# EAGLE library part MOLEX_47346-1001 (library lib)
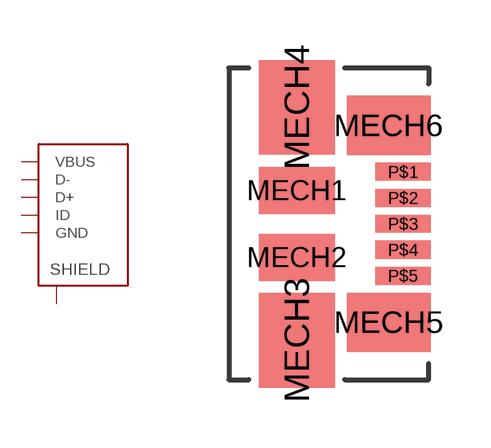
[diagram p3: symbol with the pads of MOLEX_47346-1001; footprint MOLEX_47346-1001]

Designator prefix -

## MOLEX_47346-1001  [MOLEX_47346-1001]
MECH1  P$6
MECH2  P$6
MECH3  P$6
MECH4  P$6
MECH5  P$6
MECH6  P$6
P$1  VBUS
P$2  D-
P$3  D+
P$4  ID
P$5  GND

## Footprint MOLEX_47346-1001 (pad centres in mm)
smd 1.9 x 1.175: MECH1 0,0.838; MECH2 0,-0.838
smd 1.9 x 2.375: MECH3 0,-2.913; MECH4 0,2.913
smd 2.1 x 1.475: MECH5 2.3,-2.462; MECH6 2.3,2.462
smd 1.38 x 0.45: P$1 2.66,1.3; P$2 2.66,0.65; P$3 2.66,0; P$4 2.66,-0.65; P$5 2.66,-1.3